# EAGLE library part MPU-9250 (library SparkFun-Sensors)
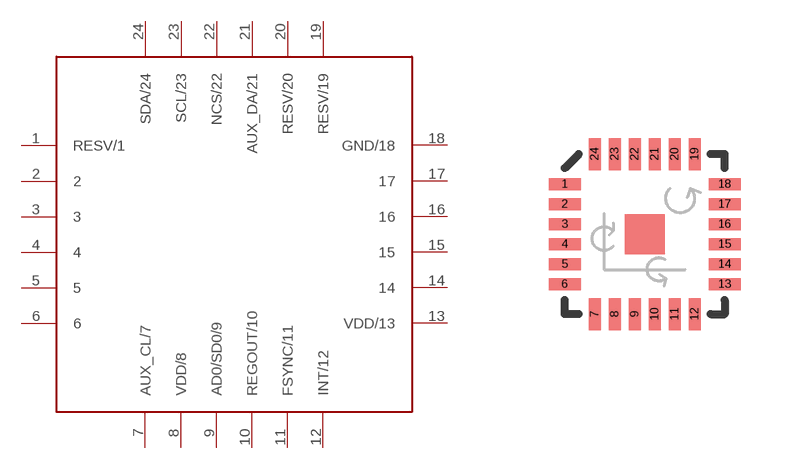
[diagram p72: symbol with the pads of QFN-24; footprint QFN-24]

Designator prefix -

## MPU-9250  [QFN-24]
1  RESV/1
2  2
3  3
4  4
5  5
6  6
7  AUX_CL/7
8  VDD/8
9  AD0/SD0/9
10  REGOUT/10
11  FSYNC/11
12  INT/12
13  VDD/13
14  14
15  15
16  16
17  17
18  GND/18
19  RESV/19
20  RESV/20
21  AUX_DA/21
22  NCS/22
23  SCL/23
24  SDA/24

## Footprint QFN-24 (pad centres in mm)
smd 0.8 x 0.3: 1 -2,1.25; 2 -2,0.75; 3 -2,0.25; 4 -2,-0.25; 5 -2,-0.75; 6 -2,-1.25; 13 2,-1.25; 14 2,-0.75; 15 2,-0.25; 16 2,0.25; 17 2,0.75; 18 2,1.25
smd 0.3 x 0.8: 7 -1.25,-2; 8 -0.75,-2; 9 -0.25,-2; 10 0.25,-2; 11 0.75,-2; 12 1.25,-2; 19 1.25,2; 20 0.75,2; 21 0.25,2; 22 -0.25,2; 23 -0.75,2; 24 -1.25,2